# Altium integrated library SSQ-110-03-X-S.IntLib: 1 symbol
Pins are listed as number, name and electrical type; pins without a type are passive.

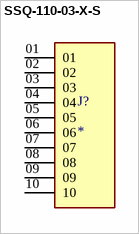
[diagram p0: symbol SSQ-110-03-X-S]

## SSQ-110-03-X-S
designator J?
10 Position Receptacle Connector Through Hole, Right Angle; MF: Samtec; MP: SSQ-110-03-L-S; Purchase-URL: https://pricing.snapeda.com/search/part/SSQ-110-03-L-S/?ref=eda; Value: *; SnapEDA_Link: https://www.snapeda.com/parts/SSQ-110-03-L-S/Samtec/view-part/3589021/?ref=snap; Package: None; Availability: Bad; Price: None; Check_prices: https://www.snapeda.com/parts/SSQ-110-03-L-S/Samtec/view-part/3589021/?ref=eda
footprint SAMTEC_SSQ-110-03-X-S
pins: 01, 02, 03, 04, 05, 06, 07, 08, 09, 10